# EAGLE library part SGTL5000XNAA3 (library circuit_tree)
IC
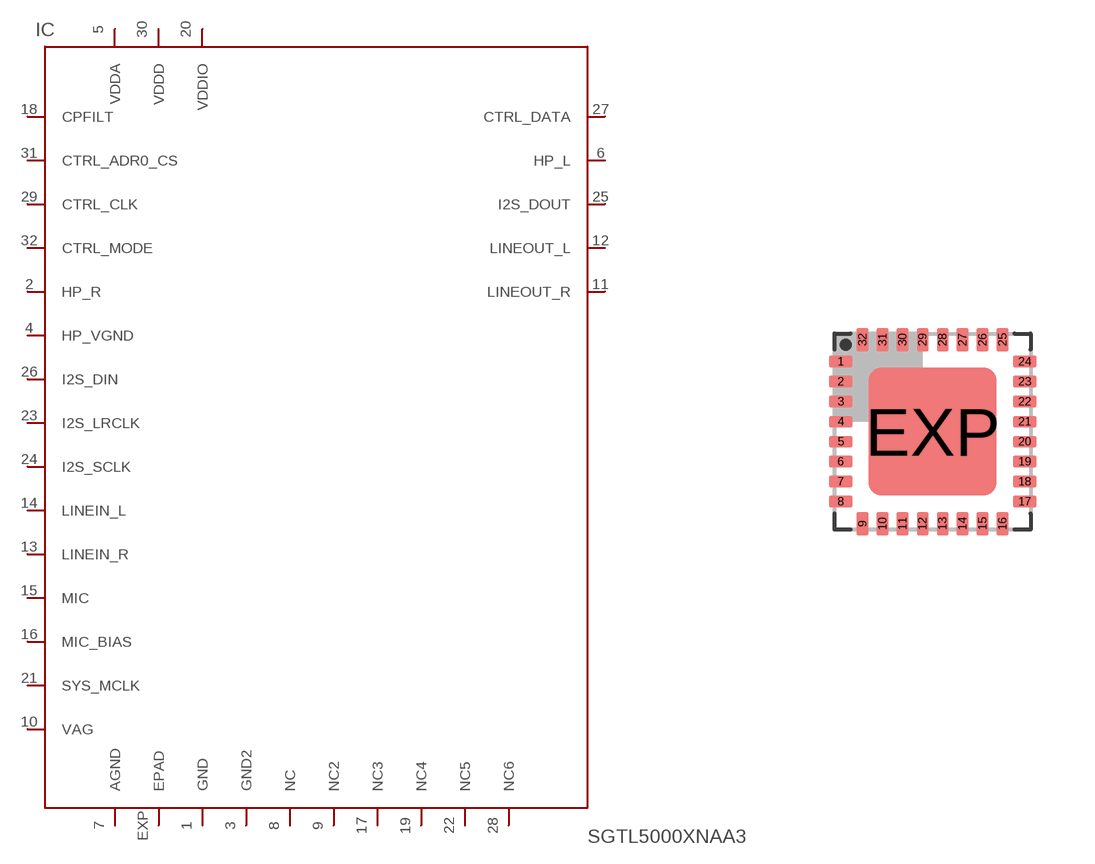
[diagram p8: symbol with the pads of QFN-32; footprint QFN-32]

Designator prefix IC

## SGTL5000XNAA3  [QFN-32]
1  GND  pas
2  HP_R  pas
3  GND2  pas
4  HP_VGND  pas
5  VDDA  pas
6  HP_L  pas
7  AGND  pas
8  NC  pas
9  NC2  pas
10  VAG  pas
11  LINEOUT_R  pas
12  LINEOUT_L  pas
13  LINEIN_R  pas
14  LINEIN_L  pas
15  MIC  pas
16  MIC_BIAS  pas
17  NC3  pas
18  CPFILT  pas
19  NC4  pas
20  VDDIO  pas
21  SYS_MCLK  pas
22  NC5  pas
23  I2S_LRCLK  pas
24  I2S_SCLK  pas
25  I2S_DOUT  pas
26  I2S_DIN  pas
27  CTRL_DATA  pas
28  NC6  pas
29  CTRL_CLK  pas
30  VDDD  pas
31  CTRL_ADR0_CS  pas
32  CTRL_MODE  pas
EXP  EPAD  pas

## Footprint QFN-32 (pad centres in mm)
smd 0.6 x 0.3: 1 -2.3,1.75; 2 -2.3,1.25; 3 -2.3,0.75; 4 -2.3,0.25; 5 -2.3,-0.25; 6 -2.3,-0.75; 7 -2.3,-1.25; 8 -2.3,-1.75; 17 2.3,-1.75; 18 2.3,-1.25; 19 2.3,-0.75; 20 2.3,-0.25; 21 2.3,0.25; 22 2.3,0.75; 23 2.3,1.25; 24 2.3,1.75
smd 0.3 x 0.6: 9 -1.75,-2.3; 10 -1.25,-2.3; 11 -0.75,-2.3; 12 -0.25,-2.3; 13 0.25,-2.3; 14 0.75,-2.3; 15 1.25,-2.3; 16 1.75,-2.3; 25 1.75,2.3; 26 1.25,2.3; 27 0.75,2.3; 28 0.25,2.3; 29 -0.25,2.3; 30 -0.75,2.3; 31 -1.25,2.3; 32 -1.75,2.3
smd 3.2 x 3.2: EXP 0,0